# Altium schematic symbol library SamacSys_Parts.SCHLIB: 37 symbols
Pins are listed as number, name and electrical type; pins without a type are passive.

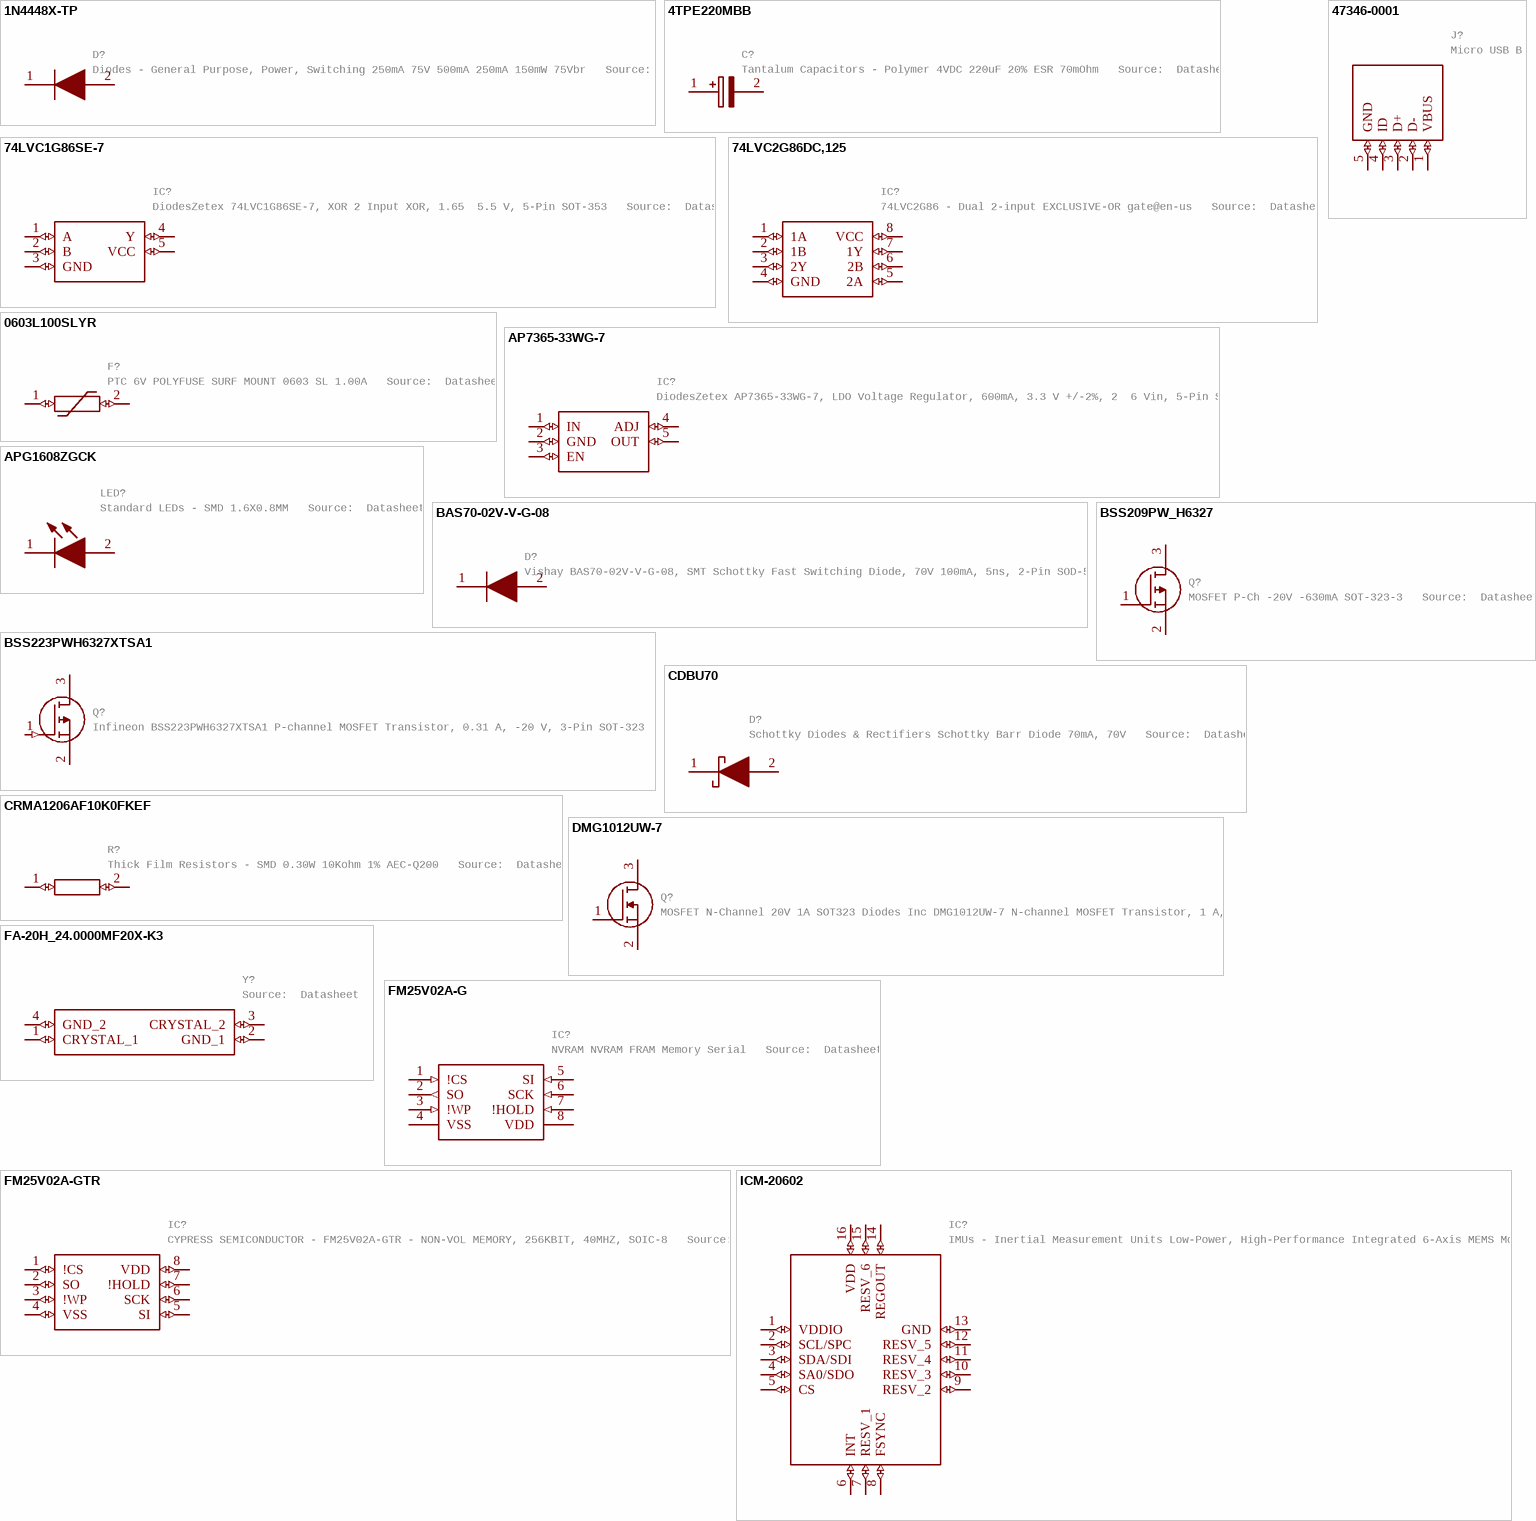
[diagram p0: symbols 1N4448X-TP to ICM-20602]

## 1N4448X-TP
designator D?, comment Diodes - General Purpose, Power, Switching 250mA 75V 500mA 250mA 150mW 75Vbr   Source:  Datasheet
Manufacturer_Name: Micro Commercial Components (MCC); GateName_1: G$1; SymbolName_1: 1N4448X-TP; LibraryName: SamacSys_Parts; DeviceSetName: 1N4448X-TP; Package: 1N4448XTP; Mouser_Part_Number: 833-1N4448X-TP; Mouser_Price-Stock: https://www.mouser.com/Search/Refine.aspx?Keyword=833-1N4448X-TP; Manufacturer_Part_Number: 1N4448X-TP; Description: Diodes - General Purpose, Power, Switching 250mA 75V 500mA 250mA 150mW 75Vbr; Height: 0.65mm
footprint 1N4448XTP
pins: 1 K (io), 2 A (io)

## 4TPE220MBB
designator C?, comment Tantalum Capacitors - Polymer 4VDC 220uF 20% ESR 70mOhm   Source:  Datasheet
Manufacturer_Name: Panasonic; GateName_1: G$1; SymbolName_1: 4TPE220MBB; LibraryName: SamacSys_Parts; DeviceSetName: 4TPE220MBB; Package: 4TPE220MBB; Mouser_Part_Number: 667-4TPE220MBB; Mouser_Price-Stock: https://www.mouser.co.uk/ProductDetail/Panasonic/4TPE220MBB?qs=4qgZ1GHix0V27BnmRtQYow%3D%3D; Manufacturer_Part_Number: 4TPE220MBB; Description: Tantalum Capacitors - Polymer 4VDC 220uF 20% ESR 70mOhm; Height: 2mm
footprint 4TPE220MBB
pins: 1 + (io), 2 - (io)

## 74LVC1G86SE-7
designator IC?, comment DiodesZetex 74LVC1G86SE-7, XOR 2 Input XOR, 1.65  5.5 V, 5-Pin SOT-353   Source:  Datasheet
Manufacturer_Name: Diodes Inc.; GateName_1: G$1; SymbolName_1: 74LVC1G86SE-7; LibraryName: SamacSys_Parts; DeviceSetName: 74LVC1G86SE-7; Package: SOT65P210X110-5N; Mouser_Part_Number: 621-74LVC1G86SE-7; Mouser_Price-Stock: https://www.mouser.co.uk/ProductDetail/Diodes-Incorporated/74LVC1G86SE-7/?qs=8Dv1RiiPiVJ%252BnYSWg3kTgg%3D%3D; Manufacturer_Part_Number: 74LVC1G86SE-7; Description: DiodesZetex 74LVC1G86SE-7, XOR 2 Input XOR, 1.65  5.5 V, 5-Pin SOT-353; Height: 1.1mm
footprint SOT65P210X110-5N
pins: 1 A (io), 2 B (io), 3 GND (io), 4 Y (io), 5 VCC (io)

## 74LVC2G86DC,125
designator IC?, comment 74LVC2G86 - Dual 2-input EXCLUSIVE-OR gate@en-us   Source:  Datasheet
Manufacturer_Name: Nexperia; GateName_1: G$1; SymbolName_1: 74LVC2G86DC,125; LibraryName: SamacSys_Parts; DeviceSetName: 74LVC2G86DC,125; Package: SOP50P310X100-8N; Mouser_Part_Number: 771-LVC2G86DC125; Mouser_Price-Stock: https://www.mouser.co.uk/ProductDetail/Nexperia/74LVC2G86DC125?qs=me8TqzrmIYXbZy3sMRjHUw%3D%3D; Manufacturer_Part_Number: 74LVC2G86DC,125; Description: 74LVC2G86 - Dual 2-input EXCLUSIVE-OR gate@en-us; Height: 1mm
footprint SOP50P310X100-8N
pins: 1 1A (io), 2 1B (io), 3 2Y (io), 4 GND (io), 5 2A (io), 6 2B (io), 7 1Y (io), 8 VCC (io)

## 0603L100SLYR
designator F?, comment PTC 6V POLYFUSE SURF MOUNT 0603 SL 1.00A   Source:  Datasheet
Manufacturer_Name: LITTELFUSE; GateName_1: G$1; SymbolName_1: 0603L100SLYR; LibraryName: SamacSys_Parts; DeviceSetName: 0603L100SLYR; Package: 0603L050SLYR; Mouser_Part_Number: 576-0603L100SLYR; Mouser_Price-Stock: https://www.mouser.co.uk/ProductDetail/Littelfuse/0603L100SLYR?qs=%252BPPFKVzHyAKqCAJtLoK6vw%3D%3D; Manufacturer_Part_Number: 0603L100SLYR; Description: PTC 6V POLYFUSE SURF MOUNT 0603 SL 1.00A; Height: 0.75mm
footprint 0603L050SLYR
pins: 1 (io), 2 (io)

## 47346-0001
designator J?, comment Micro USB B Receptacle Bottom Mount Assy Molex Right Angle SMT Type B Version 2.0 Micro USB Connector Socket, 30 V ac, 1A 47352 MICRO-USB   Source:  Datasheet
GateName_1: G$1; SymbolName_1: 47346-0001; LibraryName: SamacSys_Parts; DeviceSetName: 47346-0001; Package: 47346-0001; Mouser_Part_Number: 538-47346-0001; Mouser_Price-Stock: https://www.mouser.co.uk/ProductDetail/Molex/47346-0001?qs=c2CV6XM0DweJBWaSeyWeCw%3D%3D; Manufacturer_Name: Molex; Manufacturer_Part_Number: 47346-0001; Description: Micro USB B Receptacle Bottom Mount Assy Molex Right Angle SMT Type B Version 2.0 Micro USB Connector Socket, 30 V ac, 1A 47352 MICRO-USB; Height: mm
footprint 47346-0001
pins: 1 VBUS (io), 2 D- (io), 3 D+ (io), 4 ID (io), 5 GND (io)

## AP7365-33WG-7
designator IC?, comment DiodesZetex AP7365-33WG-7, LDO Voltage Regulator, 600mA, 3.3 V +/-2%, 2  6 Vin, 5-Pin SOT-25   Source:  Datasheet
Manufacturer_Name: Diodes Inc.; GateName_1: G$1; SymbolName_1: AP7365-33WG-7; LibraryName: SamacSys_Parts; DeviceSetName: AP7365-33WG-7; Package: SOT95P285X130-5N; Mouser_Part_Number: 621-AP7365-33WG-7; Mouser_Price-Stock: https://www.mouser.co.uk/ProductDetail/Diodes-Incorporated/AP7365-33WG-7?qs=abZ1nkZpTuOZFvxvoFPL0w%3D%3D; Manufacturer_Part_Number: AP7365-33WG-7; Description: DiodesZetex AP7365-33WG-7, LDO Voltage Regulator, 600mA, 3.3 V +/-2%, 2  6 Vin, 5-Pin SOT-25; Height: 1.3mm
footprint SOT95P285X130-5N
pins: 1 IN (io), 2 GND (io), 3 EN (io), 4 ADJ (io), 5 OUT (io)

## APG1608ZGCK
designator LED?, comment Standard LEDs - SMD 1.6X0.8MM   Source:  Datasheet
Manufacturer_Name: Kingbright; GateName_1: G$1; SymbolName_1: APG1608ZGCK; LibraryName: SamacSys_Parts; DeviceSetName: APG1608ZGCK; Package: LEDC1608X28N; Mouser_Part_Number: 604-APG1608ZGCK; Mouser_Price-Stock: https://www.mouser.co.uk/ProductDetail/Kingbright/APG1608ZGCK?qs=Oo40KB9lBTmmOma0ledTcg%3D%3D; Manufacturer_Part_Number: APG1608ZGCK; Description: Standard LEDs - SMD 1.6X0.8MM; Height: 0.28mm
footprint LEDC1608X28N
pins: 1 K (io), 2 A (io)

## BAS70-02V-V-G-08
designator D?, comment Vishay BAS70-02V-V-G-08, SMT Schottky Fast Switching Diode, 70V 100mA, 5ns, 2-Pin SOD-523   Source:  Datasheet
GateName_1: G$1; SymbolName_1: BAS70-02V-V-G-08; LibraryName: SamacSys_Parts; DeviceSetName: BAS70-02V-V-G-08; Package: SODFL1608X70N; Mouser_Part_Number: 78-BAS70-02V-V-G-08; Mouser_Price-Stock: https://www.mouser.co.uk/ProductDetail/Vishay-Semiconductors/BAS70-02V-V-G-08?qs=%252BgSy6WSn%2FNx6OtWzB77ZjQ%3D%3D; Manufacturer_Name: Vishay; Manufacturer_Part_Number: BAS70-02V-V-G-08; Description: Vishay BAS70-02V-V-G-08, SMT Schottky Fast Switching Diode, 70V 100mA, 5ns, 2-Pin SOD-523; Height: 0.7mm
footprint SODFL1608X70N
pins: 1 K (io), 2 A (io)

## BSS209PW_H6327
designator Q?, comment MOSFET P-Ch -20V -630mA SOT-323-3   Source:  Datasheet
Manufacturer_Name: Infineon; Manufacturer_Part_Number: BSS209PW H6327; GateName_1: G$1; SymbolName_1: BSS209PW_H6327; LibraryName: SamacSys_Parts; DeviceSetName: BSS209PW_H6327; Package: SOT65P210X100-3N; Mouser_Part_Number: 726-BSS209PWH6327; Mouser_Price-Stock: https://www.mouser.com/Search/Refine.aspx?Keyword=726-BSS209PWH6327; Description: MOSFET P-Ch -20V -630mA SOT-323-3; Height: 1mm
footprint SOT65P210X100-3N
pins: 1 G (io), 2 S (io), 3 D (io)

## BSS223PWH6327XTSA1
designator Q?, comment Infineon BSS223PWH6327XTSA1 P-channel MOSFET Transistor, 0.31 A, -20 V, 3-Pin SOT-323   Source:  Datasheet
GateName_1: G$1; SymbolName_1: BSS223PWH6327XTSA1; LibraryName: SamacSys_Parts; DeviceSetName: BSS223PWH6327XTSA1; Package: SOT65P210X100-3N; Mouser_Part_Number: 726-BSS223PWH6327XTS; Mouser_Price-Stock: https://www.mouser.co.uk/ProductDetail/Infineon-Technologies/BSS223PWH6327XTSA1?qs=Dj8dEyEphkMhtpM4HseAjA%3D%3D; Manufacturer_Name: Infineon; Manufacturer_Part_Number: BSS223PWH6327XTSA1; Description: Infineon BSS223PWH6327XTSA1 P-channel MOSFET Transistor, 0.31 A, -20 V, 3-Pin SOT-323; Height: 1mm
footprint SOT65P210X100-3N
pins: 1 G (in), 2 S (io), 3 D (io)

## CDBU70
designator D?, comment Schottky Diodes & Rectifiers Schottky Barr Diode 70mA, 70V   Source:  Datasheet
Manufacturer_Name: Comchip Technology; GateName_1: G$1; SymbolName_1: CDBU70; LibraryName: SamacSys_Parts; DeviceSetName: CDBU70; Package: DIOM179X85N; Mouser_Part_Number: 750-CDBU70; Mouser_Price-Stock: https://www.mouser.co.uk/ProductDetail/Comchip-Technology/CDBU70?qs=J1R1puj4KiHu6WmHr9F3%252Bw%3D%3D; Manufacturer_Part_Number: CDBU70; Description: Schottky Diodes & Rectifiers Schottky Barr Diode 70mA, 70V; Height: 0.85mm
footprint DIOM179X85N
pins: 1 K (io), 2 A (io)

## CRMA1206AF10K0FKEF
designator R?, comment Thick Film Resistors - SMD 0.30W 10Kohm 1% AEC-Q200   Source:  Datasheet
Manufacturer_Name: Vishay; GateName_1: G$1; SymbolName_1: CRMA1206AF10K0FKEF; LibraryName: SamacSys_Parts; DeviceSetName: CRMA1206AF10K0FKEF; Package: RESC3216X74N; Mouser_Part_Number: 71-CRMA1206AF10K0FKF; Mouser_Price-Stock: https://www.mouser.co.uk/ProductDetail/Vishay/CRMA1206AF10K0FKEF?qs=TiOZkKH1s2Q81nOs5FD1Wg%3D%3D; Manufacturer_Part_Number: CRMA1206AF10K0FKEF; Description: Thick Film Resistors - SMD 0.30W 10Kohm 1% AEC-Q200; Height: 0.74mm
footprint RESC3216X74N
pins: 1 (io), 2 (io)

## DMG1012UW-7
designator Q?, comment MOSFET N-Channel 20V 1A SOT323 Diodes Inc DMG1012UW-7 N-channel MOSFET Transistor, 1 A, 20 V, 3-Pin SOT-323   Source:  Datasheet
Manufacturer_Name: Diodes Inc.; GateName_1: G$1; SymbolName_1: DMG1012UW-7; LibraryName: SamacSys_Parts; DeviceSetName: DMG1012UW-7; Package: SOT65P210X100-3N; Mouser_Part_Number: 621-DMG1012UW-7; Mouser_Price-Stock: https://www.mouser.co.uk/ProductDetail/Diodes-Incorporated/DMG1012UW-7?qs=vIZ3oKQCLxp8XxWFc0YBWg%3D%3D; Manufacturer_Part_Number: DMG1012UW-7; Description: MOSFET N-Channel 20V 1A SOT323 Diodes Inc DMG1012UW-7 N-channel MOSFET Transistor, 1 A, 20 V, 3-Pin SOT-323; Height: 1mm
footprint SOT65P210X100-3N
pins: 1 G (io), 2 S (io), 3 D (io)

## FA-20H_24.0000MF20X-K3
designator Y?, comment Source:  Datasheet
Manufacturer_Name: Epson Timing; Manufacturer_Part_Number: FA-20H 24.0000MF20X-K3; GateName_1: G$1; SymbolName_1: FA-20H_24.0000MF20X-K3; LibraryName: SamacSys_Parts; DeviceSetName: FA-20H_24.0000MF20X-K3; Package: FA20H160000MF12ZAC3; Mouser_Part_Number: 732-FA20H-24F20X-K3; Mouser_Price-Stock: https://www.mouser.co.uk/ProductDetail/Epson-Timing/FA-20H-240000MF20X-K3?qs=CANAagUtPAp2w31393daZQ%3D%3D; Height: 0.55mm
footprint FA20H160000MF12ZAC3
pins: 1 CRYSTAL_1 (io), 2 GND_1 (io), 3 CRYSTAL_2 (io), 4 GND_2 (io)

## FM25V02A-G
designator IC?, comment NVRAM NVRAM FRAM Memory Serial   Source:  Datasheet
Manufacturer_Name: Cypress Semiconductor; GateName_1: G$1; SymbolName_1: FM25V02A-G; LibraryName: SamacSys_Parts; DeviceSetName: FM25V02A-G; Package: SOT127P602X155-8N; Mouser_Part_Number: 727-FM25V02A-G; Mouser_Price-Stock: https://www.mouser.co.uk/ProductDetail/Cypress-Semiconductor/FM25V02A-G?qs=IxCaM9nJKKU1F7p7SsPN2Q%3D%3D; Manufacturer_Part_Number: FM25V02A-G; Description: NVRAM NVRAM FRAM Memory Serial; Height: 1.549mm
footprint SOT127P602X155-8N
pins: 1 !CS (in), 2 SO (out), 3 !WP (in), 4 VSS (power), 5 SI (in), 6 SCK (in), 7 !HOLD (in), 8 VDD (power)

## FM25V02A-GTR
designator IC?, comment CYPRESS SEMICONDUCTOR - FM25V02A-GTR - NON-VOL MEMORY, 256KBIT, 40MHZ, SOIC-8   Source:  Datasheet
GateName_1: G$1; SymbolName_1: FM25V02A-GTR; LibraryName: SamacSys_Parts; DeviceSetName: FM25V02A-GTR; Package: SOIC127P602X173-8N; Mouser_Part_Number: 727-FM25V02A-GTR; Mouser_Price-Stock: https://www.mouser.co.uk/ProductDetail/Cypress-Semiconductor/FM25V02A-GTR?qs=ILgNtqsyH21Sja70fv%2FiBQ%3D%3D; Manufacturer_Name: Cypress Semiconductor; Manufacturer_Part_Number: FM25V02A-GTR; Description: CYPRESS SEMICONDUCTOR - FM25V02A-GTR - NON-VOL MEMORY, 256KBIT, 40MHZ, SOIC-8; Height: 1.727mm
footprint SOIC127P602X173-8N
pins: 1 !CS (io), 2 SO (io), 3 !WP (io), 4 VSS (io), 5 SI (io), 6 SCK (io), 7 !HOLD (io), 8 VDD (io)

## ICM-20602
designator IC?, comment IMUs - Inertial Measurement Units Low-Power, High-Performance Integrated 6-Axis MEMS MotionTracking  Device in 3mm x 3mm Package   Source:  Datasheet
Manufacturer_Name: TDK; GateName_1: G$1; SymbolName_1: ICM-20602; LibraryName: SamacSys_Parts; DeviceSetName: ICM-20602; Package: IAM20680HP; Mouser_Part_Number: 410-ICM-20602; Mouser_Price-Stock: https://www.mouser.co.uk/ProductDetail/TDK-InvenSense/ICM-20602?qs=u4fy%2FsgLU9NtDChFbqTxBA%3D%3D; Manufacturer_Part_Number: ICM-20602; Description: IMUs - Inertial Measurement Units Low-Power, High-Performance Integrated 6-Axis MEMS MotionTracking  Device in 3mm x 3mm Package; Height: mm
footprint IAM20680HP
pins: 1 VDDIO (io), 2 SCL/SPC (io), 3 SDA/SDI (io), 4 SA0/SDO (io), 5 CS (io), 6 INT (io), 7 RESV_1 (io), 8 FSYNC (io), 9 RESV_2 (io), 10 RESV_3 (io), 11 RESV_4 (io), 12 RESV_5 (io), 13 GND (io), 14 REGOUT (io), 15 RESV_6 (io), 16 VDD (io)

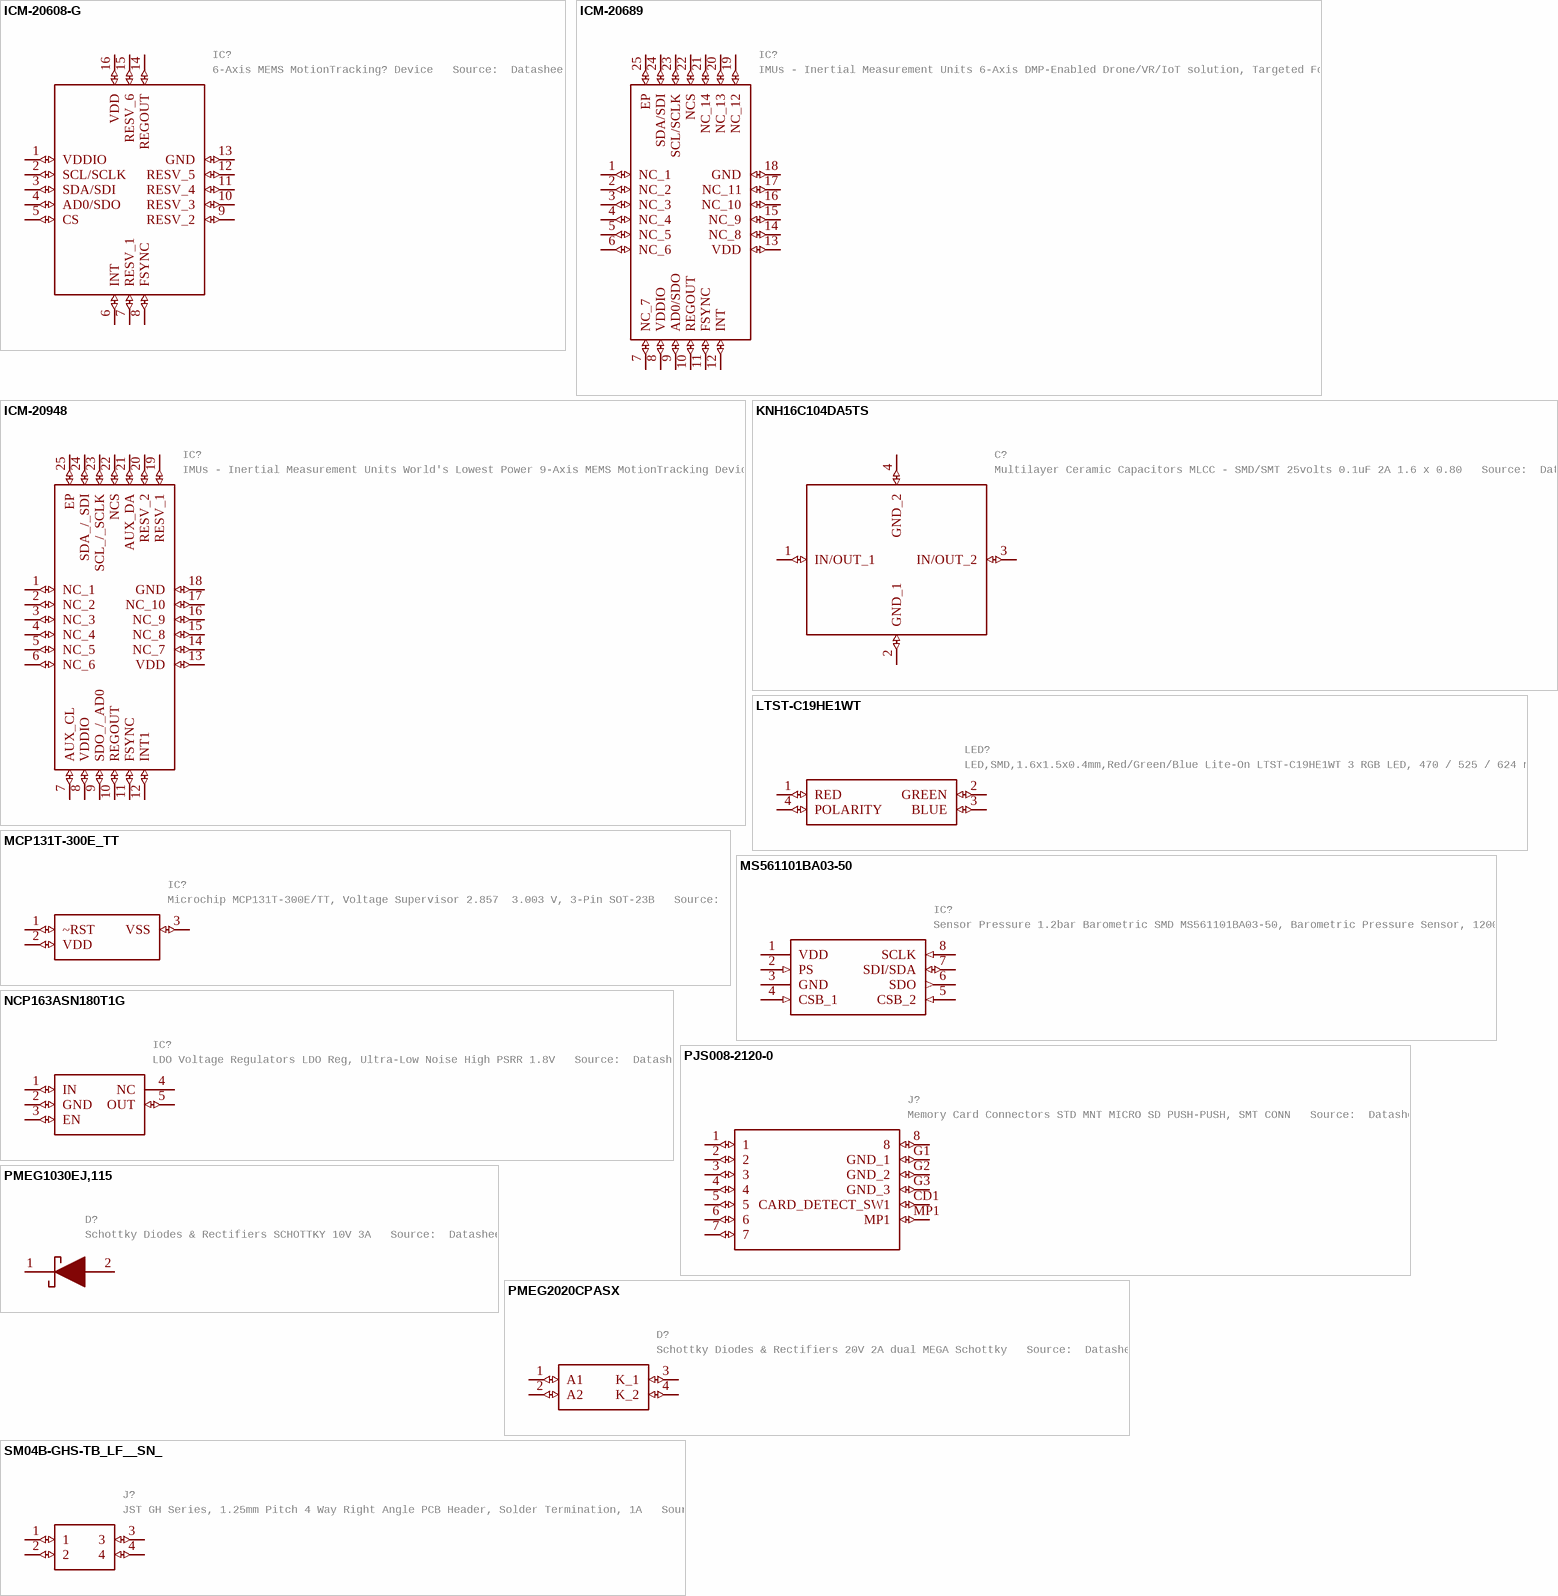
[diagram p1: symbols ICM-20608-G to SM04B-GHS-TB_LF__SN_]

## ICM-20608-G
designator IC?, comment 6-Axis MEMS MotionTracking? Device   Source:  Datasheet
Manufacturer_Name: TDK; GateName_1: G$1; SymbolName_1: ICM-20608-G; LibraryName: SamacSys_Parts; DeviceSetName: ICM-20608-G; Package: IAM20680HP; Mouser_Part_Number: 410-ICM-20608-G; Mouser_Price-Stock: https://www.mouser.co.uk/ProductDetail/TDK-InvenSense/ICM-20608-G?qs=u4fy%2FsgLU9NkRMtJWsPTtQ%3D%3D; Manufacturer_Part_Number: ICM-20608-G; Description: 6-Axis MEMS MotionTracking? Device; Height: mm
footprint IAM20680HP
pins: 1 VDDIO (io), 2 SCL/SCLK (io), 3 SDA/SDI (io), 4 AD0/SDO (io), 5 CS (io), 6 INT (io), 7 RESV_1 (io), 8 FSYNC (io), 9 RESV_2 (io), 10 RESV_3 (io), 11 RESV_4 (io), 12 RESV_5 (io), 13 GND (io), 14 REGOUT (io), 15 RESV_6 (io), 16 VDD (io)

## ICM-20689
designator IC?, comment IMUs - Inertial Measurement Units 6-Axis DMP-Enabled Drone/VR/IoT solution, Targeted For All Current MPU-6000/6050 Users   Source:  Datasheet
Manufacturer_Name: TDK; GateName_1: G$1; SymbolName_1: ICM-20689; LibraryName: SamacSys_Parts; DeviceSetName: ICM-20689; Package: QFN50P400X400X95-25N; Mouser_Part_Number: 410-ICM-20689; Mouser_Price-Stock: https://www.mouser.co.uk/ProductDetail/TDK-InvenSense/ICM-20689?qs=u4fy%2FsgLU9NcfLrncAE%252BeQ%3D%3D; Manufacturer_Part_Number: ICM-20689; Description: IMUs - Inertial Measurement Units 6-Axis DMP-Enabled Drone/VR/IoT solution, Targeted For All Current MPU-6000/6050 Users; Height: 0.95mm
footprint QFN50P400X400X95-25N
pins: 1 NC_1 (io), 2 NC_2 (io), 3 NC_3 (io), 4 NC_4 (io), 5 NC_5 (io), 6 NC_6 (io), 7 NC_7 (io), 8 VDDIO (io), 9 AD0/SDO (io), 10 REGOUT (io), 11 FSYNC (io), 12 INT (io), 13 VDD (io), 14 NC_8 (io), 15 NC_9 (io), 16 NC_10 (io), 17 NC_11 (io), 18 GND (io), 19 NC_12 (io), 20 NC_13 (io), 21 NC_14 (io), 22 NCS (io), 23 SCL/SCLK (io), 24 SDA/SDI (io), 25 EP (io)

## ICM-20948
designator IC?, comment IMUs - Inertial Measurement Units World's Lowest Power 9-Axis MEMS MotionTracking Device   Source:  Datasheet
Manufacturer_Name: TDK; GateName_1: G$1; SymbolName_1: ICM-20948; LibraryName: SamacSys_Parts; DeviceSetName: ICM-20948; Package: QFN40P300X300X105-25N; Mouser_Part_Number: 410-ICM-20948; Mouser_Price-Stock: https://www.mouser.co.uk/ProductDetail/TDK-InvenSense/ICM-20948?qs=u4fy%2FsgLU9OtGc31yF%2Friw%3D%3D; Manufacturer_Part_Number: ICM-20948; Description: IMUs - Inertial Measurement Units World's Lowest Power 9-Axis MEMS MotionTracking Device; Height: 1.05mm
footprint QFN40P300X300X105-25N
pins: 1 NC_1 (io), 2 NC_2 (io), 3 NC_3 (io), 4 NC_4 (io), 5 NC_5 (io), 6 NC_6 (io), 7 AUX_CL (io), 8 VDDIO (io), 9 SDO_/_AD0 (io), 10 REGOUT (io), 11 FSYNC (io), 12 INT1 (io), 13 VDD (io), 14 NC_7 (io), 15 NC_8 (io), 16 NC_9 (io), 17 NC_10 (io), 18 GND (io), 19 RESV_1 (io), 20 RESV_2 (io), 21 AUX_DA (io), 22 NCS (io), 23 SCL_/_SCLK (io), 24 SDA_/_SDI (io), 25 EP (io)

## KNH16C104DA5TS
designator C?, comment Multilayer Ceramic Capacitors MLCC - SMD/SMT 25volts 0.1uF 2A 1.6 x 0.80   Source:  Datasheet
Manufacturer_Name: KYOCERA; GateName_1: G$1; SymbolName_1: KNH16C104DA5TS; LibraryName: SamacSys_Parts; DeviceSetName: KNH16C104DA5TS; Package: KNH16C104DA5TS; Mouser_Part_Number: 581-KNH16C104DA5TS; Mouser_Price-Stock: https://www.mouser.co.uk/ProductDetail/Kyocera-Electronic-Components/KNH16C104DA5TS?qs=55YtniHzbhB%2FMhEmgkwYng%3D%3D; Manufacturer_Part_Number: KNH16C104DA5TS; Description: Multilayer Ceramic Capacitors MLCC - SMD/SMT 25volts 0.1uF 2A 1.6 x 0.80; Height: 0.7mm
footprint KNH16C104DA5TS
pins: 1 IN/OUT_1 (io), 2 GND_1 (io), 3 IN/OUT_2 (io), 4 GND_2 (io)

## LTST-C19HE1WT
designator LED?, comment LED,SMD,1.6x1.5x0.4mm,Red/Green/Blue Lite-On LTST-C19HE1WT 3 RGB LED, 470 / 525 / 624 nm 3-Pin, Rectangle Lens SMD package   Source:  Datasheet
GateName_1: G$1; SymbolName_1: LTST-C19HE1WT; LibraryName: SamacSys_Parts; DeviceSetName: LTST-C19HE1WT; Package: LTST-C19HE1WT; Mouser_Part_Number: 859-LTST-C19HE1WT; Mouser_Price-Stock: https://www.mouser.co.uk/ProductDetail/Lite-On/LTST-C19HE1WT?qs=WAWaI72GHKxJLPArJA9%252BUw%3D%3D; Manufacturer_Name: Lite-On; Manufacturer_Part_Number: LTST-C19HE1WT; Description: LED,SMD,1.6x1.5x0.4mm,Red/Green/Blue Lite-On LTST-C19HE1WT 3 RGB LED, 470 / 525 / 624 nm 3-Pin, Rectangle Lens SMD package; Height: mm
footprint LTST-C19HE1WT
pins: 1 RED (io), 2 GREEN (io), 3 BLUE (io), 4 POLARITY (io)

## MCP131T-300E_TT
designator IC?, comment Microchip MCP131T-300E/TT, Voltage Supervisor 2.857  3.003 V, 3-Pin SOT-23B   Source:  Datasheet
GateName_1: G$1; SymbolName_1: MCP131T-300E_TT; LibraryName: SamacSys_Parts; DeviceSetName: MCP131T-300E_TT; Package: SOT95P237X112-3N; Mouser_Part_Number: 579-MCP131T-300E/TT; Mouser_Price-Stock: https://www.mouser.com/Search/Refine.aspx?Keyword=579-MCP131T-300E%2FTT; Manufacturer_Name: Microchip; Manufacturer_Part_Number: MCP131T-300E/TT; Description: Microchip MCP131T-300E/TT, Voltage Supervisor 2.857  3.003 V, 3-Pin SOT-23B; Height: mm
footprint SOT95P237X112-3N
pins: 1 ~RST (io), 2 VDD (io), 3 VSS (io)

## MS561101BA03-50
designator IC?, comment Sensor Pressure 1.2bar Barometric SMD MS561101BA03-50, Barometric Pressure Sensor, 1200mbar 0  3.6 V Output, 8-Pin QFN   Source:  Datasheet
Manufacturer_Name: TE Connectivity; GateName_1: G$1; SymbolName_1: MS561101BA03-50; LibraryName: SamacSys_Parts; DeviceSetName: MS561101BA03-50; Package: MS561101BA03-50; Mouser_Part_Number: 824-MS561101BA03-50; Mouser_Price-Stock: https://www.mouser.co.uk/ProductDetail/Measurement-Specialties/MS561101BA03-50?qs=%252BgKeJhng5iV%252BnCz6Qd5iDw%3D%3D; Manufacturer_Part_Number: MS561101BA03-50; Description: Sensor Pressure 1.2bar Barometric SMD MS561101BA03-50, Barometric Pressure Sensor, 1200mbar 0  3.6 V Output, 8-Pin QFN; Height: mm
footprint MS561101BA03-50
pins: 1 VDD (power), 2 PS (in), 3 GND (power), 4 CSB_1 (in), 5 CSB_2 (in), 6 SDO (out), 7 SDI/SDA (io), 8 SCLK (in)

## NCP163ASN180T1G
designator IC?, comment LDO Voltage Regulators LDO Reg, Ultra-Low Noise High PSRR 1.8V   Source:  Datasheet
Manufacturer_Name: onsemi; GateName_1: G$1; SymbolName_1: NCP163ASN180T1G; LibraryName: SamacSys_Parts; DeviceSetName: NCP163ASN180T1G; Package: SOT95P280X145-5N; Mouser_Part_Number: 863-NCP163ASN180T1G; Mouser_Price-Stock: https://www.mouser.co.uk/ProductDetail/onsemi/NCP163ASN180T1G?qs=vLWxofP3U2z0o2tJM%252BNAYw%3D%3D; Manufacturer_Part_Number: NCP163ASN180T1G; Description: LDO Voltage Regulators LDO Reg, Ultra-Low Noise High PSRR 1.8V; Height: 1.45mm
footprint SOT95P280X145-5N
pins: 1 IN (io), 2 GND (io), 3 EN (io), 4 NC, 5 OUT (io)

## PJS008-2120-0
designator J?, comment Memory Card Connectors STD MNT MICRO SD PUSH-PUSH, SMT CONN   Source:  Datasheet
Manufacturer_Name: Yamaichi; GateName_1: G$1; SymbolName_1: PJS008-2120-0; LibraryName: SamacSys_Parts; DeviceSetName: PJS008-2120-0; Package: PJS00821200; Mouser_Part_Number: 945-PJS008-2120-0; Mouser_Price-Stock: https://www.mouser.co.uk/ProductDetail/Yamaichi-Electronics/PJS008-2120-0?qs=pDnM3xHIg41mTHT1wk7bvQ%3D%3D; Manufacturer_Part_Number: PJS008-2120-0; Description: Memory Card Connectors STD MNT MICRO SD PUSH-PUSH, SMT CONN; Height: 1.5mm
footprint PJS00821200
pins: 1 (io), 2 (io), 3 (io), 4 (io), 5 (io), 6 (io), 7 (io), 8 (io), CD1 CARD_DETECT_SW1 (io), G1 GND_1 (io), G2 GND_2 (io), G3 GND_3 (io), MP1 (io)

## PMEG1030EJ,115
designator D?, comment Schottky Diodes & Rectifiers SCHOTTKY 10V 3A   Source:  Datasheet
Manufacturer_Name: Nexperia; GateName_1: G$1; SymbolName_1: PMEG1030EJ,115; LibraryName: SamacSys_Parts; DeviceSetName: PMEG1030EJ,115; Package: SODFL2512X80N; Mouser_Part_Number: 771-PMEG1030EJ-T/R; Mouser_Price-Stock: https://www.mouser.co.uk/ProductDetail/Nexperia/PMEG1030EJ115?qs=LOCUfHb8d9vmk7P%2FuYbs5A%3D%3D; Manufacturer_Part_Number: PMEG1030EJ,115; Description: Schottky Diodes & Rectifiers SCHOTTKY 10V 3A; Height: 0.8mm
footprint SODFL2512X80N
pins: 1 K (io), 2 A (io)

## PMEG2020CPASX
designator D?, comment Schottky Diodes & Rectifiers 20V 2A dual MEGA Schottky   Source:  Datasheet
Manufacturer_Name: Nexperia; GateName_1: G$1; SymbolName_1: PMEG2020CPASX; LibraryName: SamacSys_Parts; DeviceSetName: PMEG2020CPASX; Package: PMEG2020CPASX; Mouser_Part_Number: 771-PMEG2020CPASX; Mouser_Price-Stock: https://www.mouser.co.uk/ProductDetail/Nexperia/PMEG2020CPASX?qs=K2OaAKmNuLimeK0EUCzHKQ%3D%3D; Manufacturer_Part_Number: PMEG2020CPASX; Description: Schottky Diodes & Rectifiers 20V 2A dual MEGA Schottky; Height: 0.65mm
footprint PMEG2020CPASX
pins: 1 A1 (io), 2 A2 (io), 3 K_1 (io), 4 K_2 (io)

## SM04B-GHS-TB_LF__SN_
designator J?, comment JST GH Series, 1.25mm Pitch 4 Way Right Angle PCB Header, Solder Termination, 1A   Source:  Datasheet
Manufacturer_Name: JST (JAPAN SOLDERLESS TERMINALS); Manufacturer_Part_Number: SM04B-GHS-TB(LF)(SN); GateName_1: G$1; SymbolName_1: SM04B-GHS-TB_LF__SN_; LibraryName: SamacSys_Parts; DeviceSetName: SM04B-GHS-TB_LF__SN_; Package: SM04B-GHS-TB; RS_Part_Number: 7521797P; RS_Price-Stock: http://uk.rs-online.com/web/p/products/7521797P; Description: JST GH Series, 1.25mm Pitch 4 Way Right Angle PCB Header, Solder Termination, 1A; Height: mm
footprint SM04B-GHS-TB
pins: 1 (io), 2 (io), 3 (io), 4 (io)

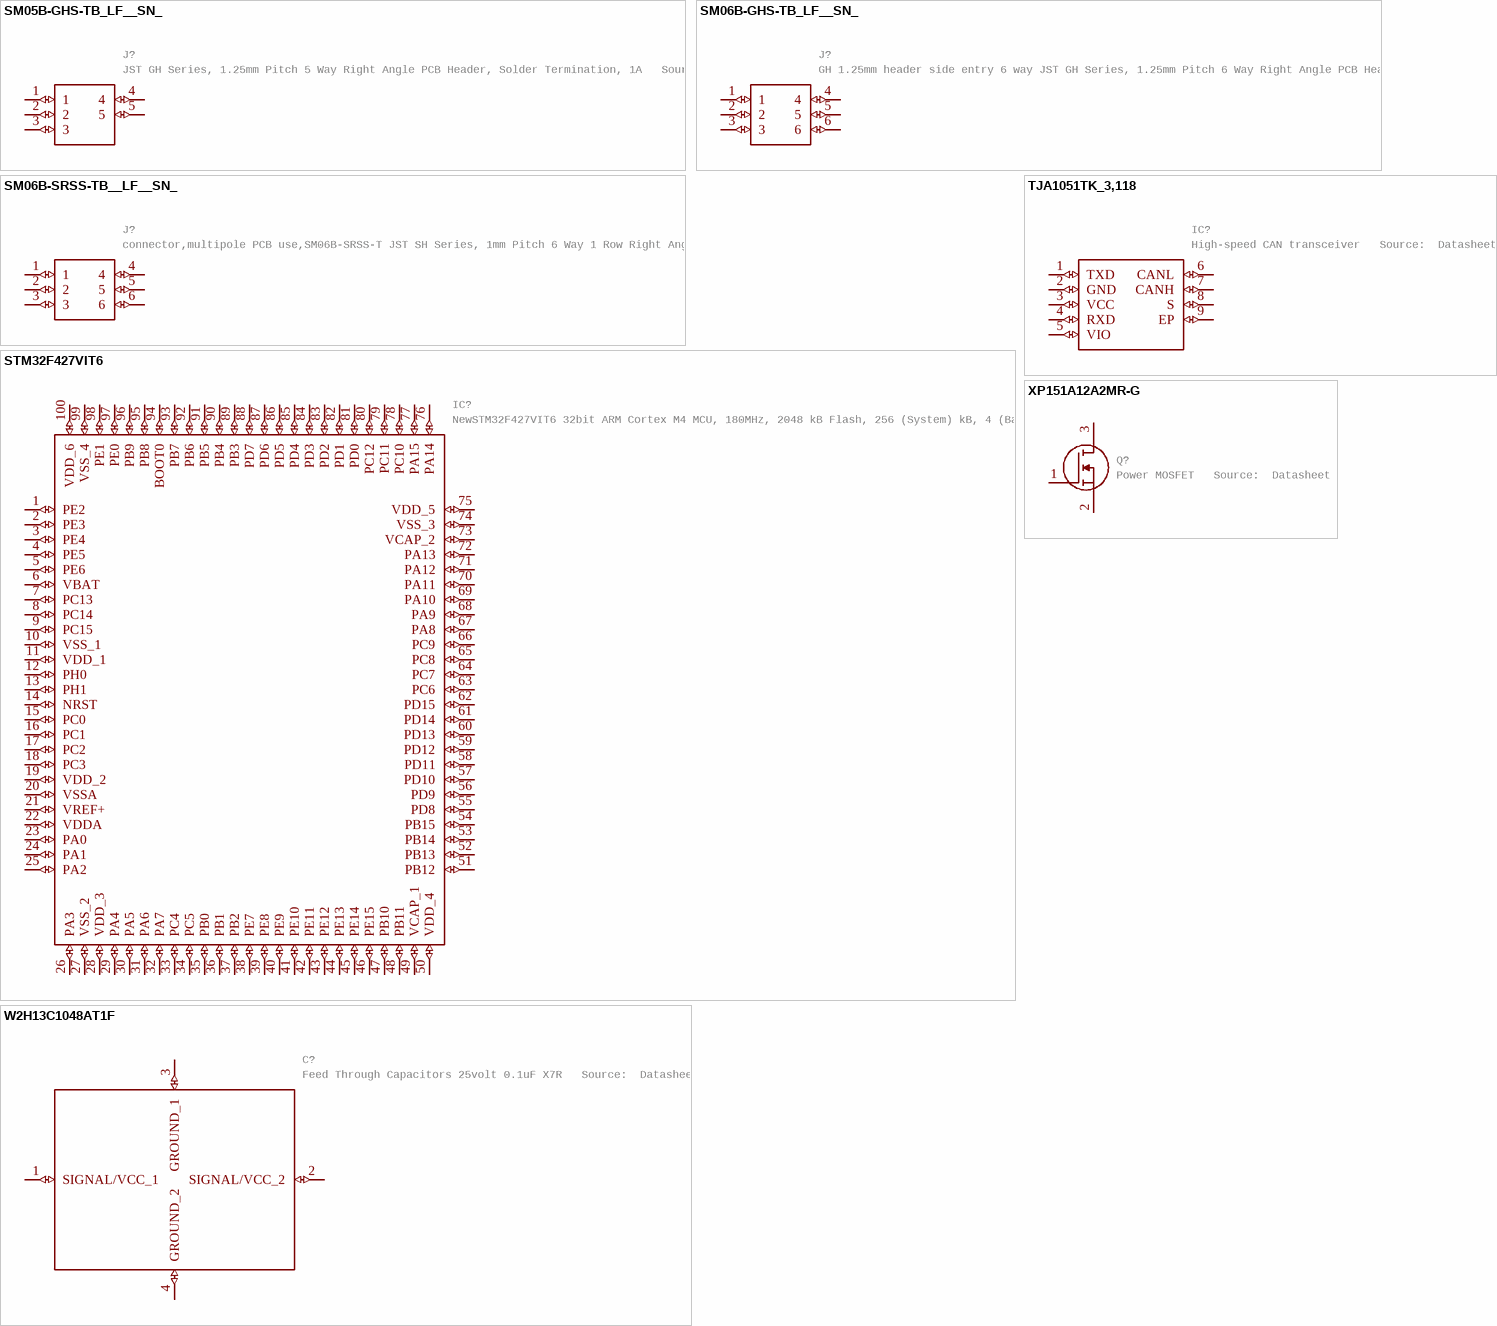
[diagram p2: symbols SM05B-GHS-TB_LF__SN_ to XP151A12A2MR-G]

## SM05B-GHS-TB_LF__SN_
designator J?, comment JST GH Series, 1.25mm Pitch 5 Way Right Angle PCB Header, Solder Termination, 1A   Source:  Datasheet
Manufacturer_Name: JST (JAPAN SOLDERLESS TERMINALS); Manufacturer_Part_Number: SM05B-GHS-TB(LF)(SN); GateName_1: G$1; SymbolName_1: SM05B-GHS-TB_LF__SN_; LibraryName: SamacSys_Parts; DeviceSetName: SM05B-GHS-TB_LF__SN_; Package: SM05B-GHS-TB; RS_Part_Number: 7521807P; RS_Price-Stock: http://uk.rs-online.com/web/p/products/7521807P; Description: JST GH Series, 1.25mm Pitch 5 Way Right Angle PCB Header, Solder Termination, 1A; Height: mm
footprint SM05B-GHS-TB
pins: 1 (io), 2 (io), 3 (io), 4 (io), 5 (io)

## SM06B-GHS-TB_LF__SN_
designator J?, comment GH 1.25mm header side entry 6 way JST GH Series, 1.25mm Pitch 6 Way Right Angle PCB Header, Solder Termination, 1A   Source:  Datasheet
Manufacturer_Name: JST (JAPAN SOLDERLESS TERMINALS); Manufacturer_Part_Number: SM06B-GHS-TB(LF)(SN); GateName_1: G$1; SymbolName_1: SM06B-GHS-TB_LF__SN_; LibraryName: SamacSys_Parts; DeviceSetName: SM06B-GHS-TB_LF__SN_; Package: SM06B-GHS-TB; RS_Part_Number: 7521800P; RS_Price-Stock: http://uk.rs-online.com/web/p/products/7521800P; Description: GH 1.25mm header side entry 6 way JST GH Series, 1.25mm Pitch 6 Way Right Angle PCB Header, Solder Termination, 1A; Height: mm
footprint SM06B-GHS-TB
pins: 1 (io), 2 (io), 3 (io), 4 (io), 5 (io), 6 (io)

## SM06B-SRSS-TB__LF__SN_
designator J?, comment connector,multipole PCB use,SM06B-SRSS-T JST SH Series, 1mm Pitch 6 Way 1 Row Right Angle PCB Header, Solder Termination, 1A   Source:  Datasheet
Manufacturer_Name: JST (JAPAN SOLDERLESS TERMINALS); Manufacturer_Part_Number: SM06B-SRSS-TB (LF)(SN); GateName_1: G$1; SymbolName_1: SM06B-SRSS-TB__LF__SN_; LibraryName: SamacSys_Parts; DeviceSetName: SM06B-SRSS-TB__LF__SN_; Package: SM06B-SRSS-TB; RS_Part_Number: 5468827; RS_Price-Stock: http://uk.rs-online.com/web/p/products/5468827; Description: connector,multipole PCB use,SM06B-SRSS-T JST SH Series, 1mm Pitch 6 Way 1 Row Right Angle PCB Header, Solder Termination, 1A; Height: mm
footprint SM06B-SRSS-TB
pins: 1 (io), 2 (io), 3 (io), 4 (io), 5 (io), 6 (io)

## STM32F427VIT6
designator IC?, comment NewSTM32F427VIT6 32bit ARM Cortex M4 MCU, 180MHz, 2048 kB Flash, 256 (System) kB, 4 (Backup) kB RAM, 100-pin LQFP   Source:  Datasheet
Manufacturer_Name: STMicroelectronics; GateName_1: G$1; SymbolName_1: STM32F427VIT6; LibraryName: SamacSys_Parts; DeviceSetName: STM32F427VIT6; Package: QFP50P1600X1600X160-100N; Mouser_Part_Number: 511-STM32F427VIT6; Mouser_Price-Stock: https://www.mouser.co.uk/ProductDetail/STMicroelectronics/STM32F427VIT6?qs=GlLcxsc1hfFxlQzXIfPRUw%3D%3D; Manufacturer_Part_Number: STM32F427VIT6; Description: NewSTM32F427VIT6 32bit ARM Cortex M4 MCU, 180MHz, 2048 kB Flash, 256 (System) kB, 4 (Backup) kB RAM, 100-pin LQFP; Height: 1.6mm
footprint QFP50P1600X1600X160-100N
pins: 1 PE2 (io), 2 PE3 (io), 3 PE4 (io), 4 PE5 (io), 5 PE6 (io), 6 VBAT (io), 7 PC13 (io), 8 PC14 (io), 9 PC15 (io), 10 VSS_1 (io), 11 VDD_1 (io), 12 PH0 (io), 13 PH1 (io), 14 NRST (io), 15 PC0 (io), 16 PC1 (io), 17 PC2 (io), 18 PC3 (io), 19 VDD_2 (io), 20 VSSA (io), 21 VREF+ (io), 22 VDDA (io), 23 PA0 (io), 24 PA1 (io), 25 PA2 (io), 26 PA3 (io), 27 VSS_2 (io), 28 VDD_3 (io), 29 PA4 (io), 30 PA5 (io), 31 PA6 (io), 32 PA7 (io), 33 PC4 (io), 34 PC5 (io), 35 PB0 (io), 36 PB1 (io), 37 PB2 (io), 38 PE7 (io), 39 PE8 (io), 40 PE9 (io), 41 PE10 (io), 42 PE11 (io), 43 PE12 (io), 44 PE13 (io), 45 PE14 (io), 46 PE15 (io), 47 PB10 (io), 48 PB11 (io), 49 VCAP_1 (io), 50 VDD_4 (io), 51 PB12 (io), 52 PB13 (io), 53 PB14 (io), 54 PB15 (io), 55 PD8 (io), 56 PD9 (io), 57 PD10 (io), 58 PD11 (io), 59 PD12 (io), 60 PD13 (io), 61 PD14 (io), 62 PD15 (io), 63 PC6 (io), 64 PC7 (io), 65 PC8 (io), 66 PC9 (io), 67 PA8 (io), 68 PA9 (io), 69 PA10 (io), 70 PA11 (io), 71 PA12 (io), 72 PA13 (io), 73 VCAP_2 (io), 74 VSS_3 (io), 75 VDD_5 (io), 76 PA14 (io), 77 PA15 (io), 78 PC10 (io), 79 PC11 (io), 80 PC12 (io), 81 PD0 (io), 82 PD1 (io), 83 PD2 (io), 84 PD3 (io), 85 PD4 (io), 86 PD5 (io), 87 PD6 (io), 88 PD7 (io), 89 PB3 (io), 90 PB4 (io), 91 PB5 (io), 92 PB6 (io), 93 PB7 (io), 94 BOOT0 (io), 95 PB8 (io), 96 PB9 (io), 97 PE0 (io), 98 PE1 (io), 99 VSS_4 (io), 100 VDD_6 (io)

## TJA1051TK_3,118
designator IC?, comment High-speed CAN transceiver   Source:  Datasheet
Manufacturer_Name: NXP; Manufacturer_Part_Number: TJA1051TK/3,118; GateName_1: G$1; SymbolName_1: TJA1051TK_3,118; LibraryName: SamacSys_Parts; DeviceSetName: TJA1051TK_3,118; Package: SON65P300X300X100-9N; Mouser_Part_Number: 771-TJA1051TK/3118; Mouser_Price-Stock: https://www.mouser.co.uk/ProductDetail/NXP-Semiconductors/TJA1051TK-3118?qs=fhAOlxDPaYVrDQ2e4g%252BBJA%3D%3D; Description: High-speed CAN transceiver; Height: 1mm
footprint SON65P300X300X100-9N
pins: 1 TXD (io), 2 GND (io), 3 VCC (io), 4 RXD (io), 5 VIO (io), 6 CANL (io), 7 CANH (io), 8 S (io), 9 EP (io)

## W2H13C1048AT1F
designator C?, comment Feed Through Capacitors 25volt 0.1uF X7R   Source:  Datasheet
Manufacturer_Name: AVX; GateName_1: G$1; SymbolName_1: W2H13C1048AT1F; LibraryName: SamacSys_Parts; DeviceSetName: W2H13C1048AT1F; Package: W2H13C1048AT1A; Mouser_Part_Number: 581-W2H13C1048AT1F; Mouser_Price-Stock: https://www.mouser.com/Search/Refine.aspx?Keyword=581-W2H13C1048AT1F; Manufacturer_Part_Number: W2H13C1048AT1F; Description: Feed Through Capacitors 25volt 0.1uF X7R; Height: 1mm
footprint W2H13C1048AT1A
pins: 1 SIGNAL/VCC_1 (io), 2 SIGNAL/VCC_2 (io), 3 GROUND_1 (io), 4 GROUND_2 (io)

## XP151A12A2MR-G
designator Q?, comment Power MOSFET   Source:  Datasheet
Manufacturer_Name: Torex; GateName_1: G$1; SymbolName_1: XP151A12A2MR-G; LibraryName: SamacSys_Parts; DeviceSetName: XP151A12A2MR-G; Package: SOT95P280X130-3N; Mouser_Part_Number: 865-XP151A12A2MR-G; Mouser_Price-Stock: https://www.mouser.co.uk/ProductDetail/Torex-Semiconductor/XP151A12A2MR-G?qs=AsjdqWjXhJ%252BYt8dSaKx3TA%3D%3D; Manufacturer_Part_Number: XP151A12A2MR-G; Description: Power MOSFET; Height: 1.3mm
footprint SOT95P280X130-3N
pins: 1 G (io), 2 S (io), 3 D (io)